# Altium footprint library VFQFPN16.PcbLib: 1 footprints
Each footprint in its own frame and in the unit in brackets; x right, y up, seen from the top. Pads: shape width x height; smd on the part's side, far side on the other; paste and mask are expansions set on the pad; w line width, h text height; cw(c..) or ccw(c..) is an arc to the next point about the centre after c.
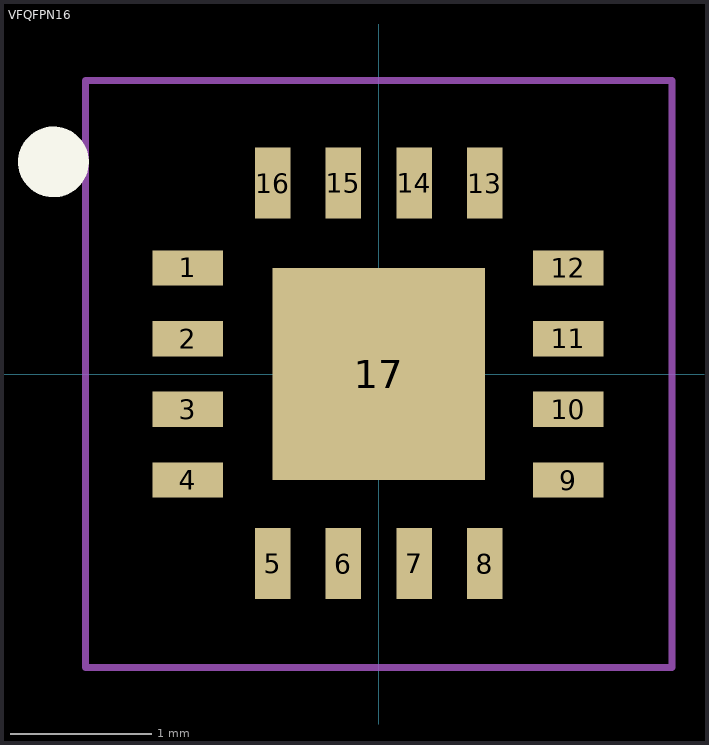
[diagram p0: the footprint, top view; thin cyan lines are the x and y axes]

## VFQFPN16 [mm] "VFQFPN16 (3 x 3 mm)"
height 0.9
pads (17):
  rect 0.5x0.25 smd: 1(-1.35,0.75) 2(-1.35,0.25) 3(-1.35,-0.25) 4(-1.35,-0.75) 9(1.34,-0.75) 10(1.34,-0.25) 11(1.34,0.25) 12(1.34,0.75)
  rect 0.25x0.5 smd: 5(-0.75,-1.34) 6(-0.25,-1.34) 7(0.25,-1.34) 8(0.75,-1.34) 13(0.75,1.35) 14(0.25,1.35) 15(-0.25,1.35) 16(-0.75,1.35)
  rect 1.5x1.5 smd: 17(0,0)
Top Overlay:
  circle w0.25: c-2.3,1.5 r0.125
Mechanical 15:
  lines w0.05: -2.075,-2.075 2.075,-2.075 2.075,2.075 -2.075,2.075 -2.075,-2.075
  lines w0.1: -0.5,0 0.5,0 ; 0,-0.5 0,0.5
3D body "User Library-QFN-16_3x3.STEP": height 0.9, standoff 0, extent -1.53,-1.521 1.512,1.521